# Altium footprint library CONECTOR_AUTOMOTRIZ_8_PATAS.PcbLib: 1 footprints
Each footprint in its own frame and in the unit in brackets; x right, y up, seen from the top. Pads: shape width x height; smd on the part's side, far side on the other; paste and mask are expansions set on the pad; w line width, h text height; cw(c..) or ccw(c..) is an arc to the next point about the centre after c.
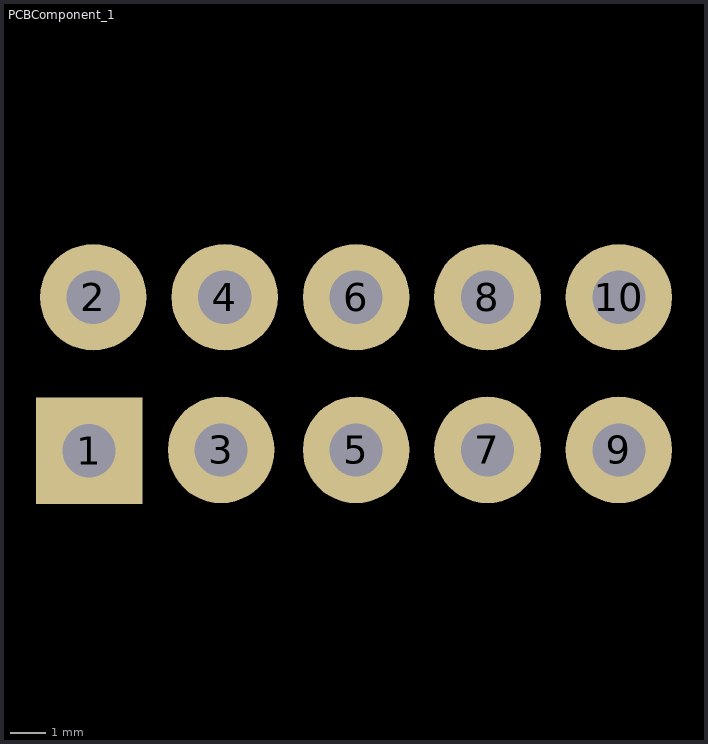
[diagram p0: the footprint, top view; thin cyan lines are the x and y axes]

## PCBComponent_1 [mm]
pads (10):
  rect 3x3 hole 1.5: 1(-1248.217,-1253.823)
  round 3 hole 1.5: 2(-1248.1,-1249.5) 3(-1244.5,-1253.8) 4(-1244.4,-1249.5) 5(-1240.7,-1253.8) 6(-1240.7,-1249.5) 7(-1237,-1253.8) 8(-1237,-1249.5) 9(-1233.3,-1253.8) 10(-1233.3,-1249.5)